# EAGLE library part CAP1188-1-CP (library PatternAgents-TouchChips)
MicroChip (nee SMSC) CAP1188-1-CP - Proximity Capacitive Touch Sensor Controller Source Data: http://ww1.microchip.com/downloads/en/DeviceDoc/CAP1188%20.pdf PKG Source: http://ww1.microchip.com/downloads/en/DeviceDoc/CAP1188%20.pdf LBR Source: http://www.patternagents.com THIS SOFTWARE IS PROVIDED BY THE CONTRIBUTORS "AS IS" AND WITHOUT ANY EXPRESS OR IMPLIED WARRANTIES, INCLUDING, BUT NOT LIMITED TO, THE IMPLIED WARRANTIES OF MERCHANTABILITY AND FITNESS FOR A PARTICULAR PURPOSE ARE DISCLAIMED. IN NO EVENT SHALL THE COPYRIGHT OWNER OR CONTRIBUTORS BE LIABLE FOR ANY DIRECT, INDIRECT, INCIDENTAL, SPECIAL, EXEMPLARY, OR CONSEQUENTIAL DAMAGES (INCLUDING, BUT NOT LIMITED TO, PROCUREMENT OF SUBSTITUTE GOODS OR SERVICES; LOSS OF USE, DATA, OR PROFITS; OR BUSINESS INTERRUPTION) HOWEVER CAUSED AND ON ANY THEORY OF LIABILITY, WHETHER IN CONTRACT, STRICT LIABILITY, OR TORT (INCLUDING NEGLIGENCE OR OTHERWISE) ARISING IN ANY WAY OUT OF THE USE OF THIS SOFTWARE, EVEN IF ADVISED OF THE POSSIBILITY OF SUCH DAMAGE.
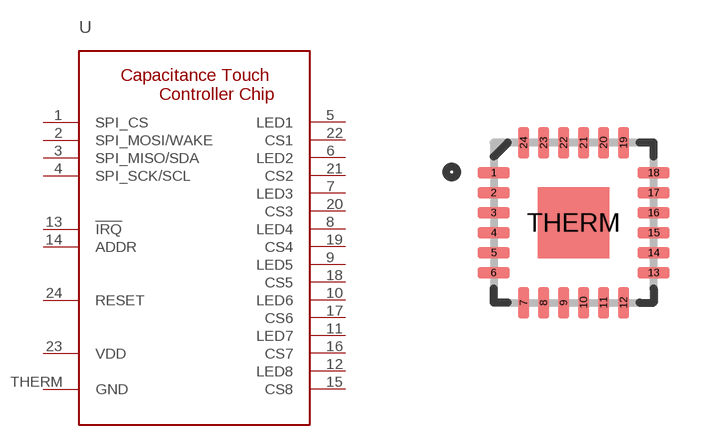
[diagram p1: symbol with the pads of QFN-24-0.4MM; footprint QFN-24-0.4MM]

Designator prefix U

## CAP1188-1-CP  [QFN-24-0.4MM]
1  SPI_CS
2  SPI_MOSI/WAKE
3  SPI_MISO/SDA
4  SPI_SCK/SCL
5  LED1
6  LED2
7  LED3
8  LED4
9  LED5
10  LED6
11  LED7
12  LED8
13  !IRQ
14  ADDR
15  CS8
16  CS7
17  CS6
18  CS5
19  CS4
20  CS3
21  CS2
22  CS1
23  VDD
24  RESET
THERM  GND

## Footprint QFN-24-0.4MM (pad centres in mm)
smd 0.8 x 0.28: 1 -2,1.25; 2 -2,0.75; 3 -2,0.25; 4 -2,-0.25; 5 -2,-0.75; 6 -2,-1.25; 13 2,-1.25; 14 2,-0.75; 15 2,-0.25; 16 2,0.25; 17 2,0.75; 18 2,1.25
smd 0.28 x 0.8: 7 -1.25,-2; 8 -0.75,-2; 9 -0.25,-2; 10 0.25,-2; 11 0.75,-2; 12 1.25,-2; 19 1.25,2; 20 0.75,2; 21 0.25,2; 22 -0.25,2; 23 -0.75,2; 24 -1.25,2
smd 1.778 x 1.778: THERM 0,0